# Altium integrated library TI Data Converters Analog to Digital Converter.IntLib: 2197 symbols (part 167 of 168)
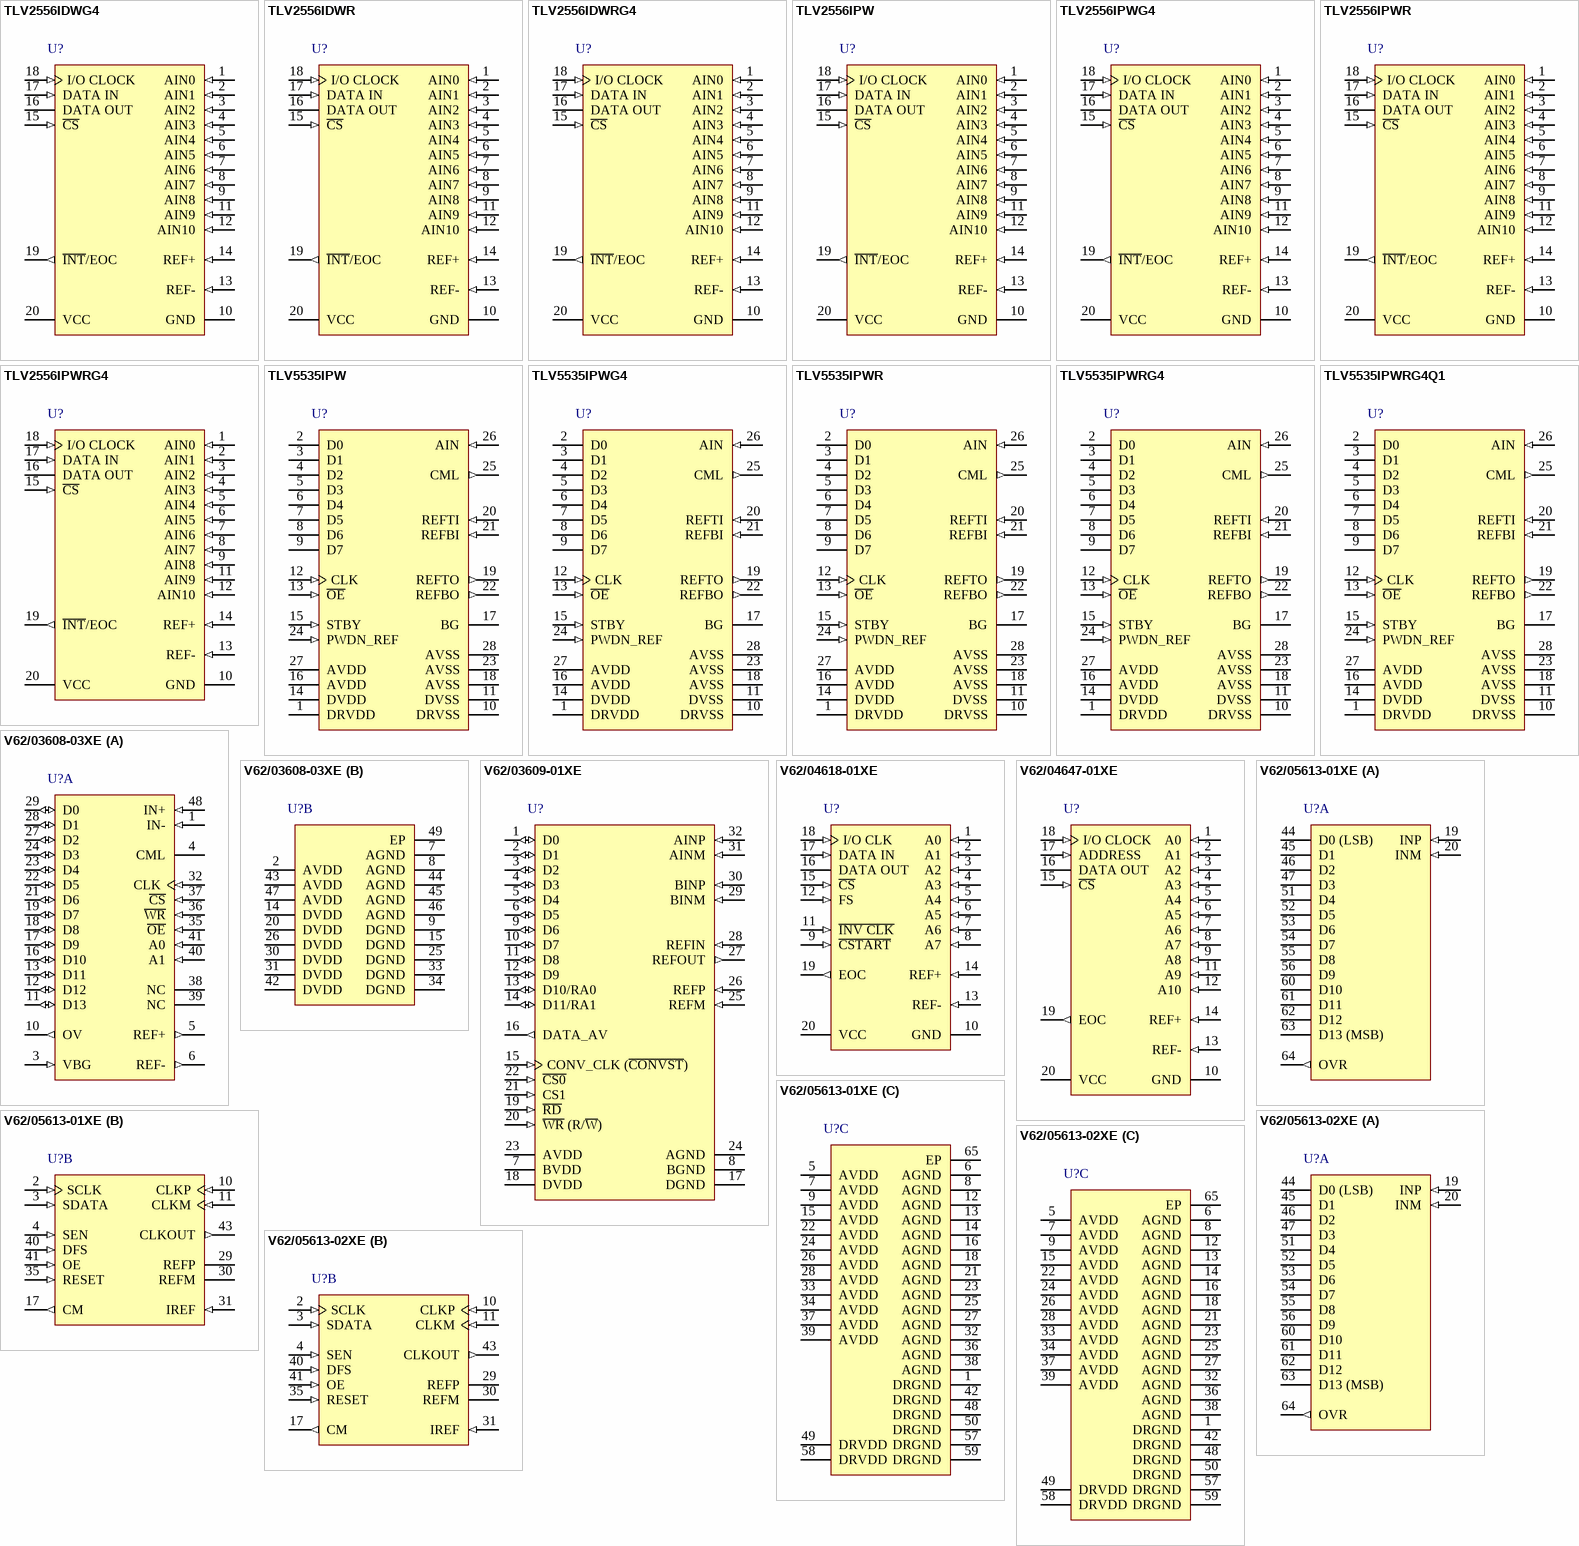
[diagram p292: symbols TLV2556IDWG4 to V62/05613-02XE]

## TLV2556IPWR
designator U?
12-Bit, 200 kSPS, 11 Channel, Low Power, Serial ADC with Internal Reference, -40 to 85 degC, 20-pin SOP (PW20), Green (RoHS & no Sb/Br); Manufacturer: Texas Instruments; PartNumber: TLV2556IPWR; # Input Channels: 11; Analog Voltage AV/DD(Max)(V): 5.5; Analog Voltage AV/DD(Min)(V): 2.7; Architecture: SAR; INL(Max)(+/-LSB): 1; Interface: Serial SPI; Resolution(Bits): 12; Sample Rate (max)(SPS): 200k; SubFamily: Precision ADC (<=10MSPS); DatasheetVersion: SLAS355A; PackageVersion: 4040064-5/G, 02/2011; PackageReference: PW20; PackageDescription: 20-Pin Plastic Small Outline, Body 6.5 x 4.4 mm, Pitch 0.65 mm; Supplier 1: Digi-Key; Supplier Part Number 1: ADC128S052QCMTX/NOPB-ND; Supplier 2: Mouser; Supplier Part Number 2: 926-A128S052QCMTXNPB; Digital Supply(Max)(V): 5.5; Digital Supply(Min)(V): 2.7; Eco-Plan: Green (RoHS & no Sb/Br); Mounting Technology: Surface Mount; Code_JEDEC: MO-153; ComponentLink1Description: Manufacturer URL; ComponentLink1URL: http://www.ti.com/; ComponentLink2Description: Datasheet; ComponentLink2URL: http://www.ti.com/general/docs/lit/getliterature.tsp?genericPartNumber=TLV2556&fileType=pdf; ComponentLink3Description: Package Specification; ComponentLink3URL: http://www.ti.com.cn/cn/lit/ml/mpds362/mpds362.pdf
footprint TI-PW20_N (SOP, 20-Leads, Body 6.5x4.4mm, Pitch 0.65mm, IPC Medium Density)
footprint TI-PW20_L (SOP, 20-Leads, Body 6.5x4.4mm, Pitch 0.65mm, IPC High Density)
footprint TI-PW20_M (SOP, 20-Leads, Body 6.5x4.4mm, Pitch 0.65mm, IPC Low Density)
pins: 1 AIN0 (in) "Analog input. These 11 analog-signal inputs are internally multiplexed.", 2 AIN1 (in) "Analog input. These 11 analog-signal inputs are internally multiplexed.", 3 AIN2 (in) "Analog input. These 11 analog-signal inputs are internally multiplexed.", 4 AIN3 (in) "Analog input. These 11 analog-signal inputs are internally multiplexed.", 5 AIN4 (in) "Analog input. These 11 analog-signal inputs are internally multiplexed.", 6 AIN5 (in) "Analog input. These 11 analog-signal inputs are internally multiplexed.", 7 AIN6 (in) "Analog input. These 11 analog-signal inputs are internally multiplexed.", 8 AIN7 (in) "Analog input. These 11 analog-signal inputs are internally multiplexed.", 9 AIN8 (in) "Analog input. These 11 analog-signal inputs are internally multiplexed.", 10 GND (power) "Ground. GND is the ground return terminal for the internal circuitry. Unless otherwise noted, all voltage measurements are with respect to GND.", 11 AIN9 (in) "Analog input. These 11 analog-signal inputs are internally multiplexed.", 12 AIN10 (in) "Analog input. These 11 analog-signal inputs are internally multiplexed.", 13 REF- (in) "Negative reference voltage. The lower reference voltage value (nominally ground) is applied to REF-. This pin is connected to analog ground (GND of the ADC) when the internal reference is used.", 14 REF+ (in) "Positive reference voltage The upper reference voltage value (nominally VCC) is applied to REF+. The maximum analog input voltage range is determined by the difference between the voltage applied to terminals REF+ and REF-. (See Datasheet)", 15 ~{CS} (in) "Chip select. A high-to-low transition on C\S\ resets the internal counters and controls and enables DATA OUT, DATA IN, and I/O CLOCK. A low-to-high transition disables DATA IN and I/O CLOCK within a setup time.", 16 DATA OUT (hiz) "The 3-state serial output for the A/D conversion result. DATA OUT is in the high-impedance state when C\S\ is high and active when C\S\ is low. With a valid C\S\, DATA OUT is removed from the high-impedance state and is (See Datasheet)", 17 DATA IN (in) "Serial data input. The 4-bit serial data can be used as address selects the desired analog input channel or test voltage to be converted next, or a command to activate other other features. The input data is presented with (See Datasheet)", 18 I/O CLOCK (in) "Input/output clock. I/O CLOCK receives the serial input and performs the following four functions: 1. It clocks the eight input data bits into the input data register on the first eight rising edges of I/O CLOCK with the (See Datasheet)", 19 ~{INT}/EOC (out) "Status output, used to indicate the end of conversion (EOC) or an interrupt (INT) to host processor. Programmed as INT (interrupt): INT goes from a high to a low logic level after the conversion is complete and the data is (See Datasheet)", 20 VCC (power) "Positive supply voltage"

## TLV2556IPWRG4
designator U?
12-Bit, 200 kSPS, 11 Channel, Low Power, Serial ADC with Internal Reference, -40 to 85 degC, 20-pin SOP (PW20), Green (RoHS & no Sb/Br); Manufacturer: Texas Instruments; PartNumber: TLV2556IPWRG4; # Input Channels: 11; Analog Voltage AV/DD(Max)(V): 5.5; Analog Voltage AV/DD(Min)(V): 2.7; Architecture: SAR; INL(Max)(+/-LSB): 1; Interface: Serial SPI; Resolution(Bits): 12; Sample Rate (max)(SPS): 200k; SubFamily: Precision ADC (<=10MSPS); DatasheetVersion: SLAS355A; PackageVersion: 4040064-5/G, 02/2011; PackageReference: PW20; PackageDescription: 20-Pin Plastic Small Outline, Body 6.5 x 4.4 mm, Pitch 0.65 mm; Digital Supply(Max)(V): 5.5; Digital Supply(Min)(V): 2.7; Eco-Plan: Green (RoHS & no Sb/Br); Mounting Technology: Surface Mount; Code_JEDEC: MO-153; ComponentLink1Description: Manufacturer URL; ComponentLink1URL: http://www.ti.com/; ComponentLink2Description: Datasheet; ComponentLink2URL: http://www.ti.com/general/docs/lit/getliterature.tsp?genericPartNumber=TLV2556&fileType=pdf; ComponentLink3Description: Package Specification; ComponentLink3URL: http://www.ti.com.cn/cn/lit/ml/mpds362/mpds362.pdf
footprint TI-PW20_N (SOP, 20-Leads, Body 6.5x4.4mm, Pitch 0.65mm, IPC Medium Density)
footprint TI-PW20_L (SOP, 20-Leads, Body 6.5x4.4mm, Pitch 0.65mm, IPC High Density)
footprint TI-PW20_M (SOP, 20-Leads, Body 6.5x4.4mm, Pitch 0.65mm, IPC Low Density)
pins: 1 AIN0 (in) "Analog input. These 11 analog-signal inputs are internally multiplexed.", 2 AIN1 (in) "Analog input. These 11 analog-signal inputs are internally multiplexed.", 3 AIN2 (in) "Analog input. These 11 analog-signal inputs are internally multiplexed.", 4 AIN3 (in) "Analog input. These 11 analog-signal inputs are internally multiplexed.", 5 AIN4 (in) "Analog input. These 11 analog-signal inputs are internally multiplexed.", 6 AIN5 (in) "Analog input. These 11 analog-signal inputs are internally multiplexed.", 7 AIN6 (in) "Analog input. These 11 analog-signal inputs are internally multiplexed.", 8 AIN7 (in) "Analog input. These 11 analog-signal inputs are internally multiplexed.", 9 AIN8 (in) "Analog input. These 11 analog-signal inputs are internally multiplexed.", 10 GND (power) "Ground. GND is the ground return terminal for the internal circuitry. Unless otherwise noted, all voltage measurements are with respect to GND.", 11 AIN9 (in) "Analog input. These 11 analog-signal inputs are internally multiplexed.", 12 AIN10 (in) "Analog input. These 11 analog-signal inputs are internally multiplexed.", 13 REF- (in) "Negative reference voltage. The lower reference voltage value (nominally ground) is applied to REF-. This pin is connected to analog ground (GND of the ADC) when the internal reference is used.", 14 REF+ (in) "Positive reference voltage The upper reference voltage value (nominally VCC) is applied to REF+. The maximum analog input voltage range is determined by the difference between the voltage applied to terminals REF+ and REF-. (See Datasheet)", 15 ~{CS} (in) "Chip select. A high-to-low transition on C\S\ resets the internal counters and controls and enables DATA OUT, DATA IN, and I/O CLOCK. A low-to-high transition disables DATA IN and I/O CLOCK within a setup time.", 16 DATA OUT (hiz) "The 3-state serial output for the A/D conversion result. DATA OUT is in the high-impedance state when C\S\ is high and active when C\S\ is low. With a valid C\S\, DATA OUT is removed from the high-impedance state and is (See Datasheet)", 17 DATA IN (in) "Serial data input. The 4-bit serial data can be used as address selects the desired analog input channel or test voltage to be converted next, or a command to activate other other features. The input data is presented with (See Datasheet)", 18 I/O CLOCK (in) "Input/output clock. I/O CLOCK receives the serial input and performs the following four functions: 1. It clocks the eight input data bits into the input data register on the first eight rising edges of I/O CLOCK with the (See Datasheet)", 19 ~{INT}/EOC (out) "Status output, used to indicate the end of conversion (EOC) or an interrupt (INT) to host processor. Programmed as INT (interrupt): INT goes from a high to a low logic level after the conversion is complete and the data is (See Datasheet)", 20 VCC (power) "Positive supply voltage"

## TLV5535IPW
designator U?
8-Bit, 35 MSPS ADC Single Channel, Low Power, -40 to 85 degC, 28-pin SOP (PW28), Green (RoHS & no Sb/Br); Manufacturer: Texas Instruments; PartNumber: TLV5535IPW; # Input Channels: 1; Analog Voltage AV/DD(Max)(V): 3.6; Analog Voltage AV/DD(Min)(V): 3; Architecture: Pipeline; ENOB(Bits): 7.4; INL(Max)(+/-LSB): 2.4; Interface: Parallel CMOS; Resolution(Bits): 8; Sample Rate (max)(SPS): 35M; SFDR(dB): 58; SINAD(dB): 46; SubFamily: High Speed ADC (>10MSPS); DatasheetVersion: SLAS221; PackageVersion: 4040064-7/G, 02/2011; PackageReference: PW28; PackageDescription: 28-Pin Plastic Small Outline, Body 9.7 x 4.4 mm, Pitch 0.65 mm; Supplier 1: Mouser; Supplier Part Number 1: N/A; Digital Supply(Max)(V): 3.6; Digital Supply(Min)(V): 3; Eco-Plan: Green (RoHS & no Sb/Br); Mounting Technology: Surface Mount; Code_JEDEC: MO-153; ComponentLink1Description: Manufacturer URL; ComponentLink1URL: http://www.ti.com/; ComponentLink2Description: Datasheet; ComponentLink2URL: http://www.ti.com/general/docs/lit/getliterature.tsp?genericPartNumber=TLV5535&fileType=pdf; ComponentLink3Description: Package Specification; ComponentLink3URL: http://www.ti.com/litv/pdf/mpds364
footprint TI-PW28_N (SOP, 28-Leads, Body 9.7x4.4mm, Pitch 0.65mm, IPC Medium Density)
footprint TI-PW28_L (SOP, 28-Leads, Body 9.7x4.4mm, Pitch 0.65mm, IPC High Density)
footprint TI-PW28_M (SOP, 28-Leads, Body 9.7x4.4mm, Pitch 0.65mm, IPC Low Density)
pins: 1 DRVDD (power) "Supply voltage for digital output drivers", 2 D0 (hiz) "Data outputs.", 3 D1 (hiz) "Data outputs.", 4 D2 (hiz) "Data outputs.", 5 D3 (hiz) "Data outputs.", 6 D4 (hiz) "Data outputs.", 7 D5 (hiz) "Data outputs.", 8 D6 (hiz) "Data outputs.", 9 D7 (hiz) "Data outputs. D7 is the MSB.", 10 DRVSS (power) "Ground for digital output drivers", 11 DVSS (power) "Digital ground", 12 CLK (in) "Clock input. The input is sampled on each rising edge of CLK.", 13 ~{OE} (in) "Output enable. When high, the D0 - D7 outputs go in high-impedance mode.", 14 DVDD (power) "Digital supply voltage", 15 STBY (in) "Standby input. A high level on this input enables power-down mode.", 16 AVDD (power) "Analog supply voltage", 17 BG "Band gap reference voltage. A 1-uF capacitor (with an optional 0.1-uF capacitor in parallel) should be connected between this terminal and AVSS for external filtering.", 18 AVSS (power) "Analog ground", 19 REFTO (out) "Reference voltage top output. An internally generated reference is available at this terminal. It can be connected to REFTI or left unconnected. A 1-uF capacitor between REFTO and AVSS provides sufficient decoupling required (See Datasheet)", 20 REFTI (in) "Reference voltage top input. The voltage at this terminal defines the top reference voltage for the ADC.It can be connected to REFTO or to an externally generated reference level. Sufficient filtering should be applied to (See Datasheet)", 21 REFBI (in) "Reference voltage bottom input. The voltage at this terminal defines the bottom reference voltage for the ADC. It can be connected to REFBO or to an externally generated reference level. Sufficient filtering should be (See Datasheet)", 22 REFBO (out) "Reference voltage bottom output. An internally generated reference is available at this terminal. It can be connected to REFBI or left unconnected. A 1-uF capacitor between REFBO and AVSS provides sufficient decoupling (See Datasheet)", 23 AVSS (power) "Analog ground", 24 PWDN_REF (in) "Power down for internal reference voltages. A high on this terminal disables the internal reference circuit.", 25 CML (out) "Common mode level. This voltage is equal to (AVDD - AVSS) / 2. An external 0.1-uF capacitor should be connected between this terminal and AVSS.", 26 AIN (in) "Analog input", 27 AVDD (power) "Analog supply voltage", 28 AVSS (power) "Analog ground"

## TLV5535IPWG4
designator U?
8-Bit, 35 MSPS ADC Single Channel, Low Power, -40 to 85 degC, 28-pin SOP (PW28), Green (RoHS & no Sb/Br); Manufacturer: Texas Instruments; PartNumber: TLV5535IPWG4; # Input Channels: 1; Analog Voltage AV/DD(Max)(V): 3.6; Analog Voltage AV/DD(Min)(V): 3; Architecture: Pipeline; ENOB(Bits): 7.4; INL(Max)(+/-LSB): 2.4; Interface: Parallel CMOS; Resolution(Bits): 8; Sample Rate (max)(SPS): 35M; SFDR(dB): 58; SINAD(dB): 46; SubFamily: High Speed ADC (>10MSPS); DatasheetVersion: SLAS221; PackageVersion: 4040064-7/G, 02/2011; PackageReference: PW28; PackageDescription: 28-Pin Plastic Small Outline, Body 9.7 x 4.4 mm, Pitch 0.65 mm; Supplier 1: Newark; Supplier Part Number 1: 87W7682; Supplier 2: Mouser; Supplier Part Number 2: 595-ADS4449IZCRR; Digital Supply(Max)(V): 3.6; Digital Supply(Min)(V): 3; Eco-Plan: Green (RoHS & no Sb/Br); Mounting Technology: Surface Mount; Code_JEDEC: MO-153; ComponentLink1Description: Manufacturer URL; ComponentLink1URL: http://www.ti.com/; ComponentLink2Description: Datasheet; ComponentLink2URL: http://www.ti.com/general/docs/lit/getliterature.tsp?genericPartNumber=TLV5535&fileType=pdf; ComponentLink3Description: Package Specification; ComponentLink3URL: http://www.ti.com/litv/pdf/mpds364
footprint TI-PW28_N (SOP, 28-Leads, Body 9.7x4.4mm, Pitch 0.65mm, IPC Medium Density)
footprint TI-PW28_L (SOP, 28-Leads, Body 9.7x4.4mm, Pitch 0.65mm, IPC High Density)
footprint TI-PW28_M (SOP, 28-Leads, Body 9.7x4.4mm, Pitch 0.65mm, IPC Low Density)
pins: 1 DRVDD (power) "Supply voltage for digital output drivers", 2 D0 (hiz) "Data outputs.", 3 D1 (hiz) "Data outputs.", 4 D2 (hiz) "Data outputs.", 5 D3 (hiz) "Data outputs.", 6 D4 (hiz) "Data outputs.", 7 D5 (hiz) "Data outputs.", 8 D6 (hiz) "Data outputs.", 9 D7 (hiz) "Data outputs. D7 is the MSB.", 10 DRVSS (power) "Ground for digital output drivers", 11 DVSS (power) "Digital ground", 12 CLK (in) "Clock input. The input is sampled on each rising edge of CLK.", 13 ~{OE} (in) "Output enable. When high, the D0 - D7 outputs go in high-impedance mode.", 14 DVDD (power) "Digital supply voltage", 15 STBY (in) "Standby input. A high level on this input enables power-down mode.", 16 AVDD (power) "Analog supply voltage", 17 BG "Band gap reference voltage. A 1-uF capacitor (with an optional 0.1-uF capacitor in parallel) should be connected between this terminal and AVSS for external filtering.", 18 AVSS (power) "Analog ground", 19 REFTO (out) "Reference voltage top output. An internally generated reference is available at this terminal. It can be connected to REFTI or left unconnected. A 1-uF capacitor between REFTO and AVSS provides sufficient decoupling required (See Datasheet)", 20 REFTI (in) "Reference voltage top input. The voltage at this terminal defines the top reference voltage for the ADC.It can be connected to REFTO or to an externally generated reference level. Sufficient filtering should be applied to (See Datasheet)", 21 REFBI (in) "Reference voltage bottom input. The voltage at this terminal defines the bottom reference voltage for the ADC. It can be connected to REFBO or to an externally generated reference level. Sufficient filtering should be (See Datasheet)", 22 REFBO (out) "Reference voltage bottom output. An internally generated reference is available at this terminal. It can be connected to REFBI or left unconnected. A 1-uF capacitor between REFBO and AVSS provides sufficient decoupling (See Datasheet)", 23 AVSS (power) "Analog ground", 24 PWDN_REF (in) "Power down for internal reference voltages. A high on this terminal disables the internal reference circuit.", 25 CML (out) "Common mode level. This voltage is equal to (AVDD - AVSS) / 2. An external 0.1-uF capacitor should be connected between this terminal and AVSS.", 26 AIN (in) "Analog input", 27 AVDD (power) "Analog supply voltage", 28 AVSS (power) "Analog ground"

## TLV5535IPWR
designator U?
8-Bit, 35 MSPS ADC Single Channel, Low Power, -40 to 85 degC, 28-pin SOP (PW28), Green (RoHS & no Sb/Br); Manufacturer: Texas Instruments; PartNumber: TLV5535IPWR; # Input Channels: 1; Analog Voltage AV/DD(Max)(V): 3.6; Analog Voltage AV/DD(Min)(V): 3; Architecture: Pipeline; ENOB(Bits): 7.4; INL(Max)(+/-LSB): 2.4; Interface: Parallel CMOS; Resolution(Bits): 8; Sample Rate (max)(SPS): 35M; SFDR(dB): 58; SINAD(dB): 46; SubFamily: High Speed ADC (>10MSPS); DatasheetVersion: SLAS221; PackageVersion: 4040064-7/G, 02/2011; PackageReference: PW28; PackageDescription: 28-Pin Plastic Small Outline, Body 9.7 x 4.4 mm, Pitch 0.65 mm; Supplier 1: Digi-Key; Supplier Part Number 1: 296-34813-2-ND; Supplier 2: Digi-Key; Supplier Part Number 2: 296-34813-1-ND; Supplier 3: Digi-Key; Supplier Part Number 3: 296-34813-6-ND; Supplier 4: Newark; Supplier Part Number 4: 27W9306; Supplier 5: Mouser; Supplier Part Number 5: 595-ADS4128IRGZ25; Digital Supply(Max)(V): 3.6; Digital Supply(Min)(V): 3; Eco-Plan: Green (RoHS & no Sb/Br); Mounting Technology: Surface Mount; Code_JEDEC: MO-153; ComponentLink1Description: Manufacturer URL; ComponentLink1URL: http://www.ti.com/; ComponentLink2Description: Datasheet; ComponentLink2URL: http://www.ti.com/general/docs/lit/getliterature.tsp?genericPartNumber=TLV5535&fileType=pdf; ComponentLink3Description: Package Specification; ComponentLink3URL: http://www.ti.com/litv/pdf/mpds364
footprint TI-PW28_N (SOP, 28-Leads, Body 9.7x4.4mm, Pitch 0.65mm, IPC Medium Density)
footprint TI-PW28_L (SOP, 28-Leads, Body 9.7x4.4mm, Pitch 0.65mm, IPC High Density)
footprint TI-PW28_M (SOP, 28-Leads, Body 9.7x4.4mm, Pitch 0.65mm, IPC Low Density)
pins: 1 DRVDD (power) "Supply voltage for digital output drivers", 2 D0 (hiz) "Data outputs.", 3 D1 (hiz) "Data outputs.", 4 D2 (hiz) "Data outputs.", 5 D3 (hiz) "Data outputs.", 6 D4 (hiz) "Data outputs.", 7 D5 (hiz) "Data outputs.", 8 D6 (hiz) "Data outputs.", 9 D7 (hiz) "Data outputs. D7 is the MSB.", 10 DRVSS (power) "Ground for digital output drivers", 11 DVSS (power) "Digital ground", 12 CLK (in) "Clock input. The input is sampled on each rising edge of CLK.", 13 ~{OE} (in) "Output enable. When high, the D0 - D7 outputs go in high-impedance mode.", 14 DVDD (power) "Digital supply voltage", 15 STBY (in) "Standby input. A high level on this input enables power-down mode.", 16 AVDD (power) "Analog supply voltage", 17 BG "Band gap reference voltage. A 1-uF capacitor (with an optional 0.1-uF capacitor in parallel) should be connected between this terminal and AVSS for external filtering.", 18 AVSS (power) "Analog ground", 19 REFTO (out) "Reference voltage top output. An internally generated reference is available at this terminal. It can be connected to REFTI or left unconnected. A 1-uF capacitor between REFTO and AVSS provides sufficient decoupling required (See Datasheet)", 20 REFTI (in) "Reference voltage top input. The voltage at this terminal defines the top reference voltage for the ADC.It can be connected to REFTO or to an externally generated reference level. Sufficient filtering should be applied to (See Datasheet)", 21 REFBI (in) "Reference voltage bottom input. The voltage at this terminal defines the bottom reference voltage for the ADC. It can be connected to REFBO or to an externally generated reference level. Sufficient filtering should be (See Datasheet)", 22 REFBO (out) "Reference voltage bottom output. An internally generated reference is available at this terminal. It can be connected to REFBI or left unconnected. A 1-uF capacitor between REFBO and AVSS provides sufficient decoupling (See Datasheet)", 23 AVSS (power) "Analog ground", 24 PWDN_REF (in) "Power down for internal reference voltages. A high on this terminal disables the internal reference circuit.", 25 CML (out) "Common mode level. This voltage is equal to (AVDD - AVSS) / 2. An external 0.1-uF capacitor should be connected between this terminal and AVSS.", 26 AIN (in) "Analog input", 27 AVDD (power) "Analog supply voltage", 28 AVSS (power) "Analog ground"

## TLV5535IPWRG4
designator U?
8-Bit, 35 MSPS ADC Single Channel, Low Power, -40 to 85 degC, 28-pin SOP (PW28), Green (RoHS & no Sb/Br); Manufacturer: Texas Instruments; PartNumber: TLV5535IPWRG4; # Input Channels: 1; Analog Voltage AV/DD(Max)(V): 3.6; Analog Voltage AV/DD(Min)(V): 3; Architecture: Pipeline; ENOB(Bits): 7.4; INL(Max)(+/-LSB): 2.4; Interface: Parallel CMOS; Resolution(Bits): 8; Sample Rate (max)(SPS): 35M; SFDR(dB): 58; SINAD(dB): 46; SubFamily: High Speed ADC (>10MSPS); DatasheetVersion: SLAS221; PackageVersion: 4040064-7/G, 02/2011; PackageReference: PW28; PackageDescription: 28-Pin Plastic Small Outline, Body 9.7 x 4.4 mm, Pitch 0.65 mm; Supplier 1: Digi-Key; Supplier Part Number 1: ADS131E04IPAG-ND; Supplier 2: Farnell; Supplier Part Number 2: 2211365; Supplier 3: Newark; Supplier Part Number 3: 27W9299; Supplier 4: Newark; Supplier Part Number 4: 44W8047; Supplier 5: Mouser; Supplier Part Number 5: 595-ADS131E04IPAG; Digital Supply(Max)(V): 3.6; Digital Supply(Min)(V): 3; Eco-Plan: Green (RoHS & no Sb/Br); Mounting Technology: Surface Mount; Code_JEDEC: MO-153; ComponentLink1Description: Manufacturer URL; ComponentLink1URL: http://www.ti.com/; ComponentLink2Description: Datasheet; ComponentLink2URL: http://www.ti.com/general/docs/lit/getliterature.tsp?genericPartNumber=TLV5535&fileType=pdf; ComponentLink3Description: Package Specification; ComponentLink3URL: http://www.ti.com/litv/pdf/mpds364
footprint TI-PW28_N (SOP, 28-Leads, Body 9.7x4.4mm, Pitch 0.65mm, IPC Medium Density)
footprint TI-PW28_L (SOP, 28-Leads, Body 9.7x4.4mm, Pitch 0.65mm, IPC High Density)
footprint TI-PW28_M (SOP, 28-Leads, Body 9.7x4.4mm, Pitch 0.65mm, IPC Low Density)
pins: 1 DRVDD (power) "Supply voltage for digital output drivers", 2 D0 (hiz) "Data outputs.", 3 D1 (hiz) "Data outputs.", 4 D2 (hiz) "Data outputs.", 5 D3 (hiz) "Data outputs.", 6 D4 (hiz) "Data outputs.", 7 D5 (hiz) "Data outputs.", 8 D6 (hiz) "Data outputs.", 9 D7 (hiz) "Data outputs. D7 is the MSB.", 10 DRVSS (power) "Ground for digital output drivers", 11 DVSS (power) "Digital ground", 12 CLK (in) "Clock input. The input is sampled on each rising edge of CLK.", 13 ~{OE} (in) "Output enable. When high, the D0 - D7 outputs go in high-impedance mode.", 14 DVDD (power) "Digital supply voltage", 15 STBY (in) "Standby input. A high level on this input enables power-down mode.", 16 AVDD (power) "Analog supply voltage", 17 BG "Band gap reference voltage. A 1-uF capacitor (with an optional 0.1-uF capacitor in parallel) should be connected between this terminal and AVSS for external filtering.", 18 AVSS (power) "Analog ground", 19 REFTO (out) "Reference voltage top output. An internally generated reference is available at this terminal. It can be connected to REFTI or left unconnected. A 1-uF capacitor between REFTO and AVSS provides sufficient decoupling required (See Datasheet)", 20 REFTI (in) "Reference voltage top input. The voltage at this terminal defines the top reference voltage for the ADC.It can be connected to REFTO or to an externally generated reference level. Sufficient filtering should be applied to (See Datasheet)", 21 REFBI (in) "Reference voltage bottom input. The voltage at this terminal defines the bottom reference voltage for the ADC. It can be connected to REFBO or to an externally generated reference level. Sufficient filtering should be (See Datasheet)", 22 REFBO (out) "Reference voltage bottom output. An internally generated reference is available at this terminal. It can be connected to REFBI or left unconnected. A 1-uF capacitor between REFBO and AVSS provides sufficient decoupling (See Datasheet)", 23 AVSS (power) "Analog ground", 24 PWDN_REF (in) "Power down for internal reference voltages. A high on this terminal disables the internal reference circuit.", 25 CML (out) "Common mode level. This voltage is equal to (AVDD - AVSS) / 2. An external 0.1-uF capacitor should be connected between this terminal and AVSS.", 26 AIN (in) "Analog input", 27 AVDD (power) "Analog supply voltage", 28 AVSS (power) "Analog ground"

## TLV5535IPWRG4Q1
designator U?
Automotive Catalog 8-Bit, 35 MSPS Single Channel ADC, Low Power, -40 to 85 degC, 28-pin SOP (PW28), Green (RoHS & no Sb/Br); Manufacturer: Texas Instruments; PartNumber: TLV5535IPWRG4Q1; # Input Channels: 1; Analog Voltage AV/DD(Max)(V): 3.6; Analog Voltage AV/DD(Min)(V): 3; Architecture: Pipeline; ENOB(Bits): 7.4; INL(Max)(+/-LSB): 2.4; Resolution(Bits): 8; Sample Rate (max)(SPS): 35M; SFDR(dB): 58; SINAD(dB): 46; SubFamily: High Speed ADC (>10MSPS); DatasheetVersion: SGLS230A; PackageVersion: 4040064-7/G, 02/2011; PackageReference: PW28; PackageDescription: 28-Pin Plastic Small Outline, Body 9.7 x 4.4 mm, Pitch 0.65 mm; Supplier 1: Digi-Key; Supplier Part Number 1: ADC121S101QIMFX/NOPB-ND; Supplier 2: Newark; Supplier Part Number 2: 55W5773; Supplier 3: Mouser; Supplier Part Number 3: 595-C121S101QIMFXNPB; Digital Supply(Max)(V): 3.6; Digital Supply(Min)(V): 3; Eco-Plan: Green (RoHS & no Sb/Br); Mounting Technology: Surface Mount; Code_JEDEC: MO-153; ComponentLink1Description: Manufacturer URL; ComponentLink1URL: http://www.ti.com/; ComponentLink2Description: Datasheet; ComponentLink2URL: http://www.ti.com/general/docs/lit/getliterature.tsp?genericPartNumber=TLV5535-Q1&fileType=pdf; ComponentLink3Description: Package Specification; ComponentLink3URL: http://www.ti.com/litv/pdf/mpds364
footprint TI-PW28_N (SOP, 28-Leads, Body 9.7x4.4mm, Pitch 0.65mm, IPC Medium Density)
footprint TI-PW28_L (SOP, 28-Leads, Body 9.7x4.4mm, Pitch 0.65mm, IPC High Density)
footprint TI-PW28_M (SOP, 28-Leads, Body 9.7x4.4mm, Pitch 0.65mm, IPC Low Density)
pins: 1 DRVDD (power) "Supply voltage for digital output drivers", 2 D0 (hiz) "Data outputs.", 3 D1 (hiz) "Data outputs.", 4 D2 (hiz) "Data outputs.", 5 D3 (hiz) "Data outputs.", 6 D4 (hiz) "Data outputs.", 7 D5 (hiz) "Data outputs.", 8 D6 (hiz) "Data outputs.", 9 D7 (hiz) "Data outputs. D7 is the MSB.", 10 DRVSS (power) "Ground for digital output drivers", 11 DVSS (power) "Digital ground", 12 CLK (in) "Clock input. The input is sampled on each rising edge of CLK.", 13 ~{OE} (in) "Output enable. When high, the D0 - D7 outputs go in high-impedance mode.", 14 DVDD (power) "Digital supply voltage", 15 STBY (in) "Standby input. A high level on this input enables power-down mode.", 16 AVDD (power) "Analog supply voltage", 17 BG "Band gap reference voltage. A 1-uF capacitor (with an optional 0.1-uF capacitor in parallel) should be connected between this terminal and AVSS for external filtering.", 18 AVSS (power) "Analog ground", 19 REFTO (out) "Reference voltage top output. An internally generated reference is available at this terminal. It can be connected to REFTI or left unconnected. A 1-uF capacitor between REFTO and AVSS provides sufficient decoupling required (See Datasheet)", 20 REFTI (in) "Reference voltage top input. The voltage at this terminal defines the top reference voltage for the ADC.It can be connected to REFTO or to an externally generated reference level. Sufficient filtering should be applied to (See Datasheet)", 21 REFBI (in) "Reference voltage bottom input. The voltage at this terminal defines the bottom reference voltage for the ADC. It can be connected to REFBO or to an externally generated reference level. Sufficient filtering should be (See Datasheet)", 22 REFBO (out) "Reference voltage bottom output. An internally generated reference is available at this terminal. It can be connected to REFBI or left unconnected. A 1-uF capacitor between REFBO and AVSS provides sufficient decoupling (See Datasheet)", 23 AVSS (power) "Analog ground", 24 PWDN_REF (in) "Power down for internal reference voltages. A high on this terminal disables the internal reference circuit.", 25 CML (out) "Common mode level. This voltage is equal to (AVDD - AVSS) / 2. An external 0.1-uF capacitor should be connected between this terminal and AVSS.", 26 AIN (in) "Analog input", 27 AVDD (power) "Analog supply voltage", 28 AVSS (power) "Analog ground"

## V62/03608-03XE
designator U?
Enhanced Product 14-Bit, 8 MSPS ADC Single Channel, Differential Input, DSP / uP Interface, Programmable Gain Amplifier, -55 to 125 degC, 48-pin QFP (PHP48), Green (RoHS & no Sb/Br); Manufacturer: Texas Instruments; PartNumber: V62/03608-03XE; # Input Channels: 1; Analog Voltage AV/DD(Max)(V): 3.6; Analog Voltage AV/DD(Min)(V): 3; Architecture: Pipeline; ENOB(Bits): 11.5; INL(Max)(+/-LSB): 10.5; Interface: Parallel CMOS; Resolution(Bits): 14; Sample Rate (max)(SPS): 8M; SFDR(dB): 80; SINAD(dB): 70; SNR(dB): 72; SubFamily: Precision ADC (<=10MSPS); DatasheetVersion: SGLS129B; PackageVersion: 4146927/B, 08/2003; PackageReference: PHP48-4385X4385TP; PackageDescription: 48-Pin PowerPAD(TM) Plastic Quad Flatpack, Body 7 x 7 mm, Pitch 0.5 mm; Supplier 1: Digi-Key; Supplier Part Number 1: 296-35612-2-ND; Supplier 2: Digi-Key; Supplier Part Number 2: 296-35612-1-ND; Supplier 3: Digi-Key; Supplier Part Number 3: 296-35612-6-ND; Supplier 4: Farnell; Supplier Part Number 4: 2314359; Supplier 5: Newark; Supplier Part Number 5: 55W5777; Supplier 6: Newark; Supplier Part Number 6: 87W8093; Supplier 7: Mouser; Supplier Part Number 7: 595-ADS1018IDGST; Digital Supply(Max)(V): 3.6; Digital Supply(Min)(V): 3; Eco-Plan: Green (RoHS & no Sb/Br); Mounting Technology: Surface Mount; Code_JEDEC: MS-026; ComponentLink1Description: Manufacturer URL; ComponentLink1URL: http://www.ti.com/; ComponentLink2Description: Datasheet; ComponentLink2URL: http://www.ti.com/general/docs/lit/getliterature.tsp?genericPartNumber=THS1408-EP&fileType=pdf; ComponentLink3Description: Package Specification; ComponentLink3URL: http://www.ti.com/litv/pdf/mpdi001b
footprint TI-PHP48-4385X4385TP_N (QFP, 48-Leads, Body 7x7mm, Pitch 0.5mm, Thermal Pad 4.9x4.9mm, IPC Medium Density)
footprint TI-PHP48-4385X4385TP_L (QFP, 48-Leads, Body 7x7mm, Pitch 0.5mm, Thermal Pad 4.9x4.9mm, IPC High Density)
footprint TI-PHP48-4385X4385TP_M (QFP, 48-Leads, Body 7x7mm, Pitch 0.5mm, Thermal Pad 4.9x4.9mm, IPC Low Density)
part A pins: 1 IN- (in) "Negative differential analog input", 3 VBG (in) "Reference input. This pin requires a 1-uF capacitor to AGND.", 4 CML "Reference midpoint. This pin requires a 0.1-uF capacitor to AGND.", 5 REF+ (out) "Positive reference output. This pin requires a 0.1-uF capacitor to AGND.", 6 REF- (out) "Negative reference output. This pin requires a 0.1-uF capacitor to AGND.", 10 OV (out) "Out of range output", 11 D13 (io) "Data inputs/outputs", 12 D12 (io) "Data inputs/outputs", 13 D11 (io) "Data inputs/outputs", 16 D10 (io) "Data inputs/outputs", 17 D9 (io) "Data inputs/outputs", 18 D8 (io) "Data inputs/outputs", 19 D7 (io) "Data inputs/outputs", 21 D6 (io) "Data inputs/outputs", 22 D5 (io) "Data inputs/outputs", 23 D4 (io) "Data inputs/outputs", 24 D3 (io) "Data inputs/outputs", 27 D2 (io) "Data inputs/outputs", 28 D1 (io) "Data inputs/outputs", 29 D0 (io) "Data inputs/outputs", 32 CLK (in) "Clock input", 35 ~{OE} (in) "Output enable. Active low", 36 ~{WR} (in) "Write signal. Active low", 37 ~{CS} (in) "Chip select input. Active low", 38 NC "No connection; do not use. Reserved.", 39 NC "No connection; do not use. Reserved.", 40 A1 (in) "Address input", 41 A0 (in) "Address input", 48 IN+ (in) "Positive differential analog input"
part B pins: 2 AVDD (power) "Analog power supply", 7 AGND (power) "Analog ground", 8 AGND (power) "Analog ground", 9 DGND (power) "Digital ground", 14 DVDD (power) "Digital power supply", 15 DGND (power) "Digital ground", 20 DVDD (power) "Digital power supply", 25 DGND (power) "Digital ground", 26 DVDD (power) "Digital power supply", 30 DVDD (power) "Digital power supply", 31 DVDD (power) "Digital power supply", 33 DGND (power) "Digital ground", 34 DGND (power) "Digital ground", 42 DVDD (power) "Digital power supply", 43 AVDD (power) "Analog power supply", 44 AGND (power) "Analog ground", 45 AGND (power) "Analog ground", 46 AGND (power) "Analog ground", 47 AVDD (power) "Analog power supply", 49 EP

## V62/03609-01XE
designator U?
Enhanced Product 12-Bit, 6 MSPS ADC Quad Channel, DSP / uP Interface, 16 x FIFO, -55 to 125 degC, 32-pin SOP (DA32), Green (RoHS & no Sb/Br); Manufacturer: Texas Instruments; PartNumber: V62/03609-01XE; # Input Channels: 4; Analog Voltage AV/DD(Max)(V): 5.25; Analog Voltage AV/DD(Min)(V): 4.75; Architecture: Pipeline; Digital Supply(Min)(V): 3; ENOB(Bits): 11; INL(Max)(+/-LSB): 1.8; Interface: Parallel CMOS; Resolution(Bits): 12; Sample Rate (max)(SPS): 6M; SFDR(dB): 71; SINAD(dB): 65; SNR(dB): 69; SubFamily: Precision ADC (<=10MSPS); DatasheetVersion: SGLS126A; PackageVersion: 4040066/F, 01/2009; PackageReference: DA32; PackageDescription: 32-Pin Plastic Small Outline, Body 11 x 6.1 mm, Pitch 0.65 mm; Supplier 1: Digi-Key; Supplier Part Number 1: ADC10040QCIMT/NOPB-ND; Supplier 2: Mouser; Supplier Part Number 2: 926-ADC10040QCIMTNPB; Digital Supply(Max)(V): 5.25; Eco-Plan: Green (RoHS & no Sb/Br); Mounting Technology: Surface Mount; Code_JEDEC: MO-225; ComponentLink1Description: Manufacturer URL; ComponentLink1URL: http://www.ti.com/; ComponentLink2Description: Datasheet; ComponentLink2URL: http://www.ti.com/general/docs/lit/getliterature.tsp?genericPartNumber=THS1206-EP&fileType=pdf; ComponentLink3Description: Package Specification; ComponentLink3URL: http://www.ti.com/lit/ml/mtss002e/mtss002e.pdf
footprint TI-DA32_N (SOP, 32-Leads, Body 11x6.1mm, Pitch 0.65mm, IPC Medium Density)
footprint TI-DA32_L (SOP, 32-Leads, Body 11x6.1mm, Pitch 0.65mm, IPC High Density)
footprint TI-DA32_M (SOP, 32-Leads, Body 11x6.1mm, Pitch 0.65mm, IPC Low Density)
pins: 1 D0 (io) "Digital input, output; D0 = LSB", 2 D1 (io) "Digital input, output; D0 = LSB", 3 D2 (io) "Digital input, output; D0 = LSB", 4 D3 (io) "Digital input, output; D0 = LSB", 5 D4 (io) "Digital input, output; D0 = LSB", 6 D5 (io) "Digital input, output; D0 = LSB", 7 BVDD (power) "Digital supply voltage for buffer", 8 BGND (power) "Digital ground for buffer", 9 D6 (io) "Digital input, output; D0 = LSB", 10 D7 (io) "Digital input, output; D0 = LSB", 11 D8 (io) "Digital input, output; D0 = LSB", 12 D9 (io) "Digital input, output; D0 = LSB", 13 D10/RA0 (io) "Digital input, output. The data line D10 is also used as an address line (RA0) for the control register. This is required for writing to control register 0 and control register 1. See Table 8.", 14 D11/RA1 (io) "Digital input, output (D11 = MSB). The data line D11 is also used as an address line (RA1) for the control register. This is required for writing to control register 0 and control register 1. See Table 8.", 15 CONV_CLK (~{CONVST}) (in) "Digital input. This input is used to apply an external conversion clock in the continuous conversion mode. In the single conversion mode, this input functions as the conversion start (C\O\N\V\S\T\) input. A high to low (See Datasheet)", 16 DATA_AV (out) "Data available signal, which can be used to generate an interrupt for processors and as a level information of the internal FIFO. This signal can be configured to be active low or high and can be configured as a static level (See Datasheet)", 17 DGND (power) "Digital ground. Ground reference for digital circuitry.", 18 DVDD (power) "Digital supply voltage", 19 ~{RD} (in) "The R\D\ input is used only if the W\R\ input is configured as a write only input. In this case, it is a digital input, active low as a data read select from the processor. See timing section.", 20 ~{WR} (R/~{W}) (in) "This input is programmable. It functions as a read-write input (R/W\) and can also be configured as a write-only input (W\R\), which is active low and used as data write select from the processor. In this case, the R\D\ (See Datasheet)", 21 CS1 (in) "Chip select input (active high)", 22 ~{CS0} (in) "Chip select input (active low)", 23 AVDD (power) "Analog supply voltage", 24 AGND (power) "Analog ground", 25 REFM (in) "Reference input, requires a bypass capacitor of 10 uF to AGND in order to bypass the internal reference voltage. An external reference voltage at this input can be applied. This option can be programmed through control (See Datasheet)", 26 REFP (in) "Reference input, requires a bypass capacitor of 10 uF to AGND in order to bypass the internal reference voltage. An external reference voltage at this input can be applied. This option can be programmed through control (See Datasheet)", 27 REFOUT (out) "Analog fixed reference output voltage of 2.5 V. Sink and source capability of 250 uA. The reference output requires a capacitor of 10 uF to AGND for filtering and stability.", 28 REFIN (in) "Common-mode reference input for the analog input channels. It is recommended that this pin be connected to the reference output REFOUT.", 29 BINM (in) "Analog input, single-ended or negative input of differential channel B", 30 BINP (in) "Analog input, single-ended or positive input of differential channel B", 31 AINM (in) "Analog input, single-ended or negative input of differential channel A", 32 AINP (in) "Analog input, single-ended or positive input of differential channel A"

## V62/04618-01XE
designator U?
Enhanced Product Low-Voltage 10-Bit ADC with Serial Control & 8 Analog Input, -40 to 125 degC, 20-pin SOP (DB20), Green (RoHS & no Sb/Br); Manufacturer: Texas Instruments; PartNumber: V62/04618-01XE; # Input Channels: 8; Analog Voltage AV/DD(Max)(V): 5.5; Analog Voltage AV/DD(Min)(V): 2.7; Architecture: SAR; INL(Max)(+/-LSB): 1; Interface: Serial SPI; Resolution(Bits): 10; Sample Rate (max)(SPS): 85k; SubFamily: Precision ADC (<=10MSPS); DatasheetVersion: SGLS171A; PackageVersion: 4040065/E, 12/2001; PackageReference: DB20; PackageDescription: 20-Pin Plastic Small Outline, Body 5.3 x 7.2 mm, Pitch 0.65 mm; Supplier 1: Digi-Key; Supplier Part Number 1: ADS1018IDGSR-ND; Supplier 2: Newark; Supplier Part Number 2: 55W5776; Supplier 3: Mouser; Supplier Part Number 3: 595-ADS1018IDGSR; Digital Supply(Max)(V): 5.5; Digital Supply(Min)(V): 2.7; Eco-Plan: Green (RoHS & no Sb/Br); Mounting Technology: Surface Mount; Code_JEDEC: MO-150; ComponentLink1Description: Manufacturer URL; ComponentLink1URL: http://www.ti.com/; ComponentLink2Description: Datasheet; ComponentLink2URL: http://www.ti.com/general/docs/lit/getliterature.tsp?genericPartNumber=TLV1548-EP&fileType=pdf; ComponentLink3Description: Package Specification; ComponentLink3URL: http://www.ti.com/lit/ml/msso002e/msso002e.pdf
footprint TI-DB20_N (SOP, 20-Leads, Body 7.2x5.3mm, Pitch 0.65mm, IPC Medium Density)
footprint TI-DB20_L (SOP, 20-Leads, Body 7.2x5.3mm, Pitch 0.65mm, IPC High Density)
footprint TI-DB20_M (SOP, 20-Leads, Body 7.2x5.3mm, Pitch 0.65mm, IPC Low Density)
pins: 1 A0 (in) "Analog inputs. The analog inputs are internally multiplexed. (For a source impedance greater than 1k ohm, the asynchronous start should be used to increase the sampling time.)", 2 A1 (in) "Analog inputs. The analog inputs are internally multiplexed. (For a source impedance greater than 1k ohm, the asynchronous start should be used to increase the sampling time.)", 3 A2 (in) "Analog inputs. The analog inputs are internally multiplexed. (For a source impedance greater than 1k ohm, the asynchronous start should be used to increase the sampling time.)", 4 A3 (in) "Analog inputs. The analog inputs are internally multiplexed. (For a source impedance greater than 1k ohm, the asynchronous start should be used to increase the sampling time.)", 5 A4 (in) "Analog inputs. The analog inputs are internally multiplexed. (For a source impedance greater than 1k ohm, the asynchronous start should be used to increase the sampling time.)", 6 A5 (in) "Analog inputs. The analog inputs are internally multiplexed. (For a source impedance greater than 1k ohm, the asynchronous start should be used to increase the sampling time.)", 7 A6 (in) "Analog inputs. The analog inputs are internally multiplexed. (For a source impedance greater than 1k ohm, the asynchronous start should be used to increase the sampling time.)", 8 A7 (in) "Analog inputs. The analog inputs are internally multiplexed. (For a source impedance greater than 1k ohm, the asynchronous start should be used to increase the sampling time.)", 9 ~{CSTART} (in) "Sampling/conversion start control. C\S\T\A\R\T\ controls the start of the sampling of an analog input from a selected multiplex channel. A high-to-low transition starts the sampling of the analog input signal. A low-to-high (See Datasheet)", 10 GND (power) "Ground return for internal circuitry. All voltage measurements are with respect to GND, unless otherwise noted.", 11 ~{INV CLK} (in) "Inverted clock input. I\N\V\ \C\L\K\ is tied to GND when an inverted I/O CLK is used as the source of the input clock. This affects both microprocessor and DSP interfaces. I\N\V\ \C\L\K\ is tied to VCC if I/O CLK is not (See Datasheet)", 12 FS (in) "DSP frame synchronization input. FS indicates the start of a serial data frame into or out of the device. FS is tied to VCC when interfacing the device with a microprocessor.", 13 REF- (in) "Lower reference voltage (nominally ground)", 14 REF+ (in) "Upper reference voltage (nominally VCC ). The maximum input voltage range is determined by the difference between the voltages applied to REF+ and REF-.", 15 ~{CS} (in) "Chip select. A high-to-low transition on C\S\ resets the internal counters and controls and enables DATA IN, DATA OUT, and I/O CLK within the maximum setup time. A low-to-high transition disables DATA IN, DATA OUT, and I/O (See Datasheet)", 16 DATA OUT (hiz) "Three-state serial output of the A/D conversion result. DATA OUT is in the high-impedance state when C\S\ is high and active when C\S\ is low or after FS? (in DSP mode). With a valid C\S\ signal, DATA OUT is removed fro(See Datasheet)", 17 DATA IN (in) "Serial data input. The 4-bit serial data selects the desired analog input and test voltage to be converted next in a normal cycle. These bits can also set the conversion rate and enable the power-down mode. When operating in (See Datasheet)", 18 I/O CLK (in) "Input/output clock. I/O CLK receives the serial I/O clock input in the two modes and performs the following four functions in each mode", 19 EOC (out) "End of conversion. EOC goes from a high to a low logic level on the tenth rising (microprocessor mode) or tenth falling (DSP mode) edge of I/O CLK and remains low until the conversion is complete and data is ready for (See Datasheet)", 20 VCC (power) "Positive supply voltage"

## V62/04647-01XE
designator U?
Enhanced Product 10-Bit ADC with Serial Control & 11 Analog Inputs, -40 to 125 degC, 20-pin SOIC (DW20), Green (RoHS & no Sb/Br); Manufacturer: Texas Instruments; PartNumber: V62/04647-01XE; # Input Channels: 11; Analog Voltage AV/DD(Max)(V): 5.5; Analog Voltage AV/DD(Min)(V): 4.5; Architecture: SAR; INL(Max)(+/-LSB): 1; Interface: Serial SPI; Resolution(Bits): 10; Sample Rate (max)(SPS): 38k; SubFamily: Precision ADC (<=10MSPS); DatasheetVersion: SGLS152A; PackageVersion: 4040000-4/G, 01/2011; PackageReference: DW20; PackageDescription: 20-Pin Plastic Small Outline, Body 12.8 x 7.5 mm, Pitch 1.27 mm; Supplier 1: Digi-Key; Supplier Part Number 1: 296-34883-2-ND; Supplier 2: Digi-Key; Supplier Part Number 2: 296-34883-1-ND; Supplier 3: Digi-Key; Supplier Part Number 3: 296-34883-6-ND; Supplier 4: Newark; Supplier Part Number 4: 27W9305; Supplier 5: Mouser; Supplier Part Number 5: 595-ADS131E08IPAGR; Digital Supply(Max)(V): 5.5; Digital Supply(Min)(V): 4.5; Eco-Plan: Green (RoHS & no Sb/Br); Mounting Technology: Surface Mount; Code_JEDEC: MO-013; ComponentLink1Description: Manufacturer URL; ComponentLink1URL: http://www.ti.com/; ComponentLink2Description: Datasheet; ComponentLink2URL: http://www.ti.com/general/docs/lit/getliterature.tsp?genericPartNumber=TLC1543-EP&fileType=pdf; ComponentLink3Description: Package Specification; ComponentLink3URL: http://www.ti.com/lit/ml/mpds173a/mpds173a.pdf
footprint TI-DW20_N (SOIC, 20-Leads, Body 12.8x7.5mm, Pitch 1.27mm, IPC Medium Density)
footprint TI-DW20_L (SOIC, 20-Leads, Body 12.8x7.5mm, Pitch 1.27mm, IPC High Density)
footprint TI-DW20_M (SOIC, 20-Leads, Body 12.8x7.5mm, Pitch 1.27mm, IPC Low Density)
pins: 1 A0 (in) "Analog signal inputs. The 11 analog inputs are applied to these terminals and are internally multiplexed. The driving source impedance should be less than or equal to 1 kohm.", 2 A1 (in) "Analog signal inputs. The 11 analog inputs are applied to these terminals and are internally multiplexed. The driving source impedance should be less than or equal to 1 kohm.", 3 A2 (in) "Analog signal inputs. The 11 analog inputs are applied to these terminals and are internally multiplexed. The driving source impedance should be less than or equal to 1 kohm.", 4 A3 (in) "Analog signal inputs. The 11 analog inputs are applied to these terminals and are internally multiplexed. The driving source impedance should be less than or equal to 1 kohm.", 5 A4 (in) "Analog signal inputs. The 11 analog inputs are applied to these terminals and are internally multiplexed. The driving source impedance should be less than or equal to 1 kohm.", 6 A5 (in) "Analog signal inputs. The 11 analog inputs are applied to these terminals and are internally multiplexed. The driving source impedance should be less than or equal to 1 kohm.", 7 A6 (in) "Analog signal inputs. The 11 analog inputs are applied to these terminals and are internally multiplexed. The driving source impedance should be less than or equal to 1 kohm.", 8 A7 (in) "Analog signal inputs. The 11 analog inputs are applied to these terminals and are internally multiplexed. The driving source impedance should be less than or equal to 1 kohm.", 9 A8 (in) "Analog signal inputs. The 11 analog inputs are applied to these terminals and are internally multiplexed. The driving source impedance should be less than or equal to 1 kohm.", 10 GND (power) "The ground return terminal for the internal circuitry. Unless otherwise noted, all voltage measurements are with respect to this terminal.", 11 A9 (in) "Analog signal inputs. The 11 analog inputs are applied to these terminals and are internally multiplexed. The driving source impedance should be less than or equal to 1 kohm.", 12 A10 (in) "Analog signal inputs. The 11 analog inputs are applied to these terminals and are internally multiplexed. The driving source impedance should be less than or equal to 1 kohm.", 13 REF- (in) "The lower reference voltage value (nominally ground) is applied to this terminal.", 14 REF+ (in) "The upper reference voltage value (nominally VCC) is applied to this terminal. The maximum input voltage range is determined by the difference between the voltage applied to this terminal and the voltage applied to the REF- (See Datasheet)", 15 ~{CS} (in) "Chip select. A high-to-low transition on this input resets the internal counters and controls and enables DATA OUT, ADDRESS, and I/O CLOCK within a maximum of a setup time plus two falling edges of the internal system clock. (See Datasheet)", 16 DATA OUT (hiz) "The 3-state serial output for the A/D conversion result. This output is in the high-impedance state when C\S\ is high and active when C\S\ is low. With a valid chip select, DATA OUT is removed from the high-impedance state (See Datasheet)", 17 ADDRESS (in) "Serial address input. A 4-bit serial address selects the desired analog input or test voltage that is to be converted next. The address data is presented with the MSB first and shifts in on the first four rising edges of I/O (See Datasheet)", 18 I/O CLOCK (in) "Input/output clock. This terminal receives the serial I/O CLOCK input and performs the following four functions: 1) It clocks the four input address bits into the address register on the first four rising edges of the I/O (See Datasheet)", 19 EOC (out) "End of conversion. This output goes from a high to a low logic level on the trailing edge of the tenth I/O CLOCK and remains low until the conversion is complete and data are ready for transfer.", 20 VCC (power) "Positive supply voltage"